# Altium footprint library 6002-3-0004 Rev01.PcbLib: 28 footprints (part 2 of 2)
Each footprint in its own frame and in the unit in brackets; x right, y up, seen from the top. Pads: shape width x height; smd on the part's side, far side on the other; paste and mask are expansions set on the pad; w line width, h text height; cw(c..) or ccw(c..) is an arc to the next point about the centre after c.
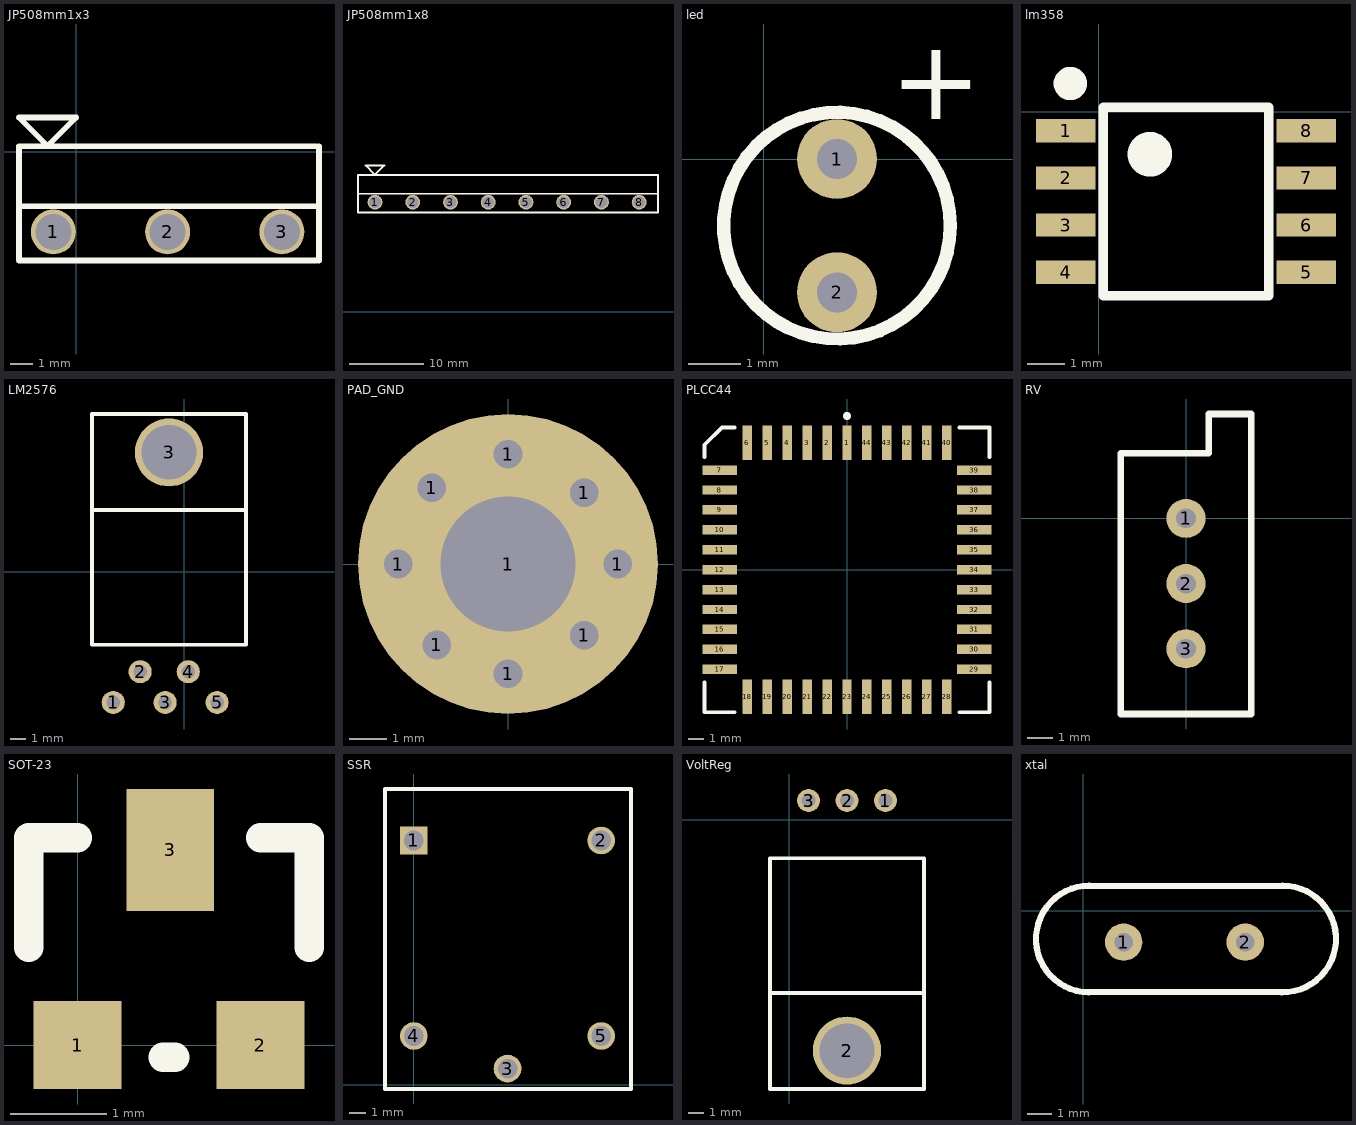
[diagram p1: the footprints below, top view; thin cyan lines are the x and y axes]

## JP508mm1x3 [mm]
pads (3):
  round 2 hole 1.6: 1(-1.016,-3.556) 2(4.064,-3.556) 3(9.144,-3.556)
Top Overlay:
  lines w0.254: -2.54,-2.413 10.668,-2.413 ; 10.668,-4.826 -2.54,-4.826 -2.54,0.254 10.668,0.254 ; 10.795,-4.826 10.795,0.254 ; -2.54,1.524 -1.27,0.254 0,1.524 -2.54,1.524

## JP508mm1x8 [mm]
pads (8):
  round 2 hole 1.6: 1(-107.696,14.732) 2(-102.616,14.732) 3(-97.536,14.732) 4(-92.456,14.732) 5(-87.376,14.732) 6(-82.296,14.732) 7(-77.216,14.732) 8(-72.136,14.732)
Top Overlay:
  lines w0.254: -109.982,15.875 -88.646,15.875 -69.596,15.875 ; -109.982,13.335 -88.646,13.335 -69.596,13.335 -69.596,18.415 -88.646,18.415 -109.982,18.415 -109.982,13.335 ; -108.966,19.685 -106.426,19.685 -107.696,18.415 -108.966,19.685

## led [mil]
pads (2):
  round 60 hole 30: 1(55,0) 2(55,-100)
Top Overlay:
  circle w10: c55,-50 r85
  text "+" at 95,30 h60

## lm358 [mil]
pads (8):
  rect 62.99x24.61 smd: 1(-35,-20) 2(-35,-70) 3(-35,-120) 4(-35,-170) 5(220,-170) 6(220,-120) 7(220,-70) 8(220,-20)
Top Overlay:
  circle w23.62: c54.25,-45 r11.81
  circle w19.68: c-30,30 r7.87
  lines w10: 5,-195 180,-195 180,5 5,5 5,-195

## LM2576 [mil]
pads (6):
  round 60 hole 35.43: 1(-185,-340) 2(-115,-260) 3(-50,-340) 4(10,-260) 5(85,-340)
  round 177.17 hole 141.73: 3(-40,310)
Top Overlay:
  lines w10: -240,160 160,160 ; -240,160 -240,410 160,410 160,160 ; -240,160 -240,-190 160,-190 160,160

## PAD_GND [mil]
pads (9):
  round 60 hole 30: 1(-115,0) 1(-80,80) 1(-75,-85) 1(0,-115) 1(0,115) 1(80,-75) 1(80,75) 1(115,0)
  round 314.96 hole 141.73: 1(0,0)

## PLCC44 [mm]
pads (44):
  rect 0.6x2.2 smd: 1(0,8.1) 2(-1.27,8.1) 3(-2.54,8.1) 4(-3.81,8.1) 5(-5.08,8.1) 6(-6.35,8.1) 18(-6.35,-8.1) 19(-5.08,-8.1) 20(-3.81,-8.1) 21(-2.54,-8.1) 22(-1.27,-8.1) 23(0,-8.1) 24(1.27,-8.1) 25(2.54,-8.1) 26(3.81,-8.1) 27(5.08,-8.1) 28(6.35,-8.1) 40(6.35,8.1) 41(5.08,8.1) 42(3.81,8.1) 43(2.54,8.1) 44(1.27,8.1)
  rect 2.2x0.6 smd: 7(-8.1,6.35) 8(-8.1,5.08) 9(-8.1,3.81) 10(-8.1,2.54) 11(-8.1,1.27) 12(-8.1,0) 13(-8.1,-1.27) 14(-8.1,-2.54) 15(-8.1,-3.81) 16(-8.1,-5.08) 17(-8.1,-6.35) 29(8.1,-6.35) 30(8.1,-5.08) 31(8.1,-3.81) 32(8.1,-2.54) 33(8.1,-1.27) 34(8.1,0) 35(8.1,1.27) 36(8.1,2.54) 37(8.1,3.81) 38(8.1,5.08) 39(8.1,6.35)
Top Overlay:
  circle w0.25: c0,9.8 r0.125
  lines w0.25: -9.075,-7.198 -9.075,-9.087 -7.185,-9.087 ; -9.075,7.172 -9.075,7.963 -7.975,9.063 -7.185,9.063 ; 7.185,-9.087 9.075,-9.087 9.075,-7.198 ; 7.185,9.063 9.075,9.063 9.075,7.172

## RV [mil]
pads (3):
  round 60 hole 30: 1(0,0) 2(0,-100) 3(0,-200)
Top Overlay:
  lines w10: -100,-300 100,-300 100,160 35,160 35,100 -100,100 -100,-300

## SOT-23 [mil]
pads (3):
  rect 36x36 smd: 1(0,0) 2(75,0)
  rect 36x50 smd: 3(38,80)
Top Overlay:
  lines w12: -20,40 -20,85 0,85 ; 35,-5 40,-5 ; 75,85 95,85 95,40

## SSR [mm]
pads (5):
  rect 1.7x1.7 hole 1.2: 1(0,15)
  round 1.7 hole 1.2: 2(11.5,15) 3(5.75,1) 4(0,3) 5(11.5,3)
Top Overlay:
  lines w0.254: -1.778,-0.254 -1.778,18.161 13.335,18.161 13.335,-0.254 -1.778,-0.254

## VoltReg [mil]
pads (4):
  round 60 hole 35.43: 1(250,50) 2(150,50) 3(50,50)
  round 177.17 hole 141.73: 2(150,-600)
Top Overlay:
  lines w10: -50,-450 350,-450 ; -50,-450 -50,-700 350,-700 350,-450 ; -50,-450 -50,-100 350,-100 350,-450

## xtal [mil]
pads (2):
  round 60 hole 30: 1(65,-50) 2(260,-50)
Top Overlay:
  lines w10: 8.68,-130.58 cw(c10,-45) 10,40.59 ; 8.69,-129.84 308.69,-129.84 ccw(c320,-45) 310,40 10,40